# Altium footprint library F 发光管.PCBLIB: 40 footprints (part 3 of 3)
Each footprint in its own frame and in the unit in brackets; x right, y up, seen from the top. Pads: shape width x height; smd on the part's side, far side on the other; paste and mask are expansions set on the pad; w line width, h text height; cw(c..) or ccw(c..) is an arc to the next point about the centre after c.
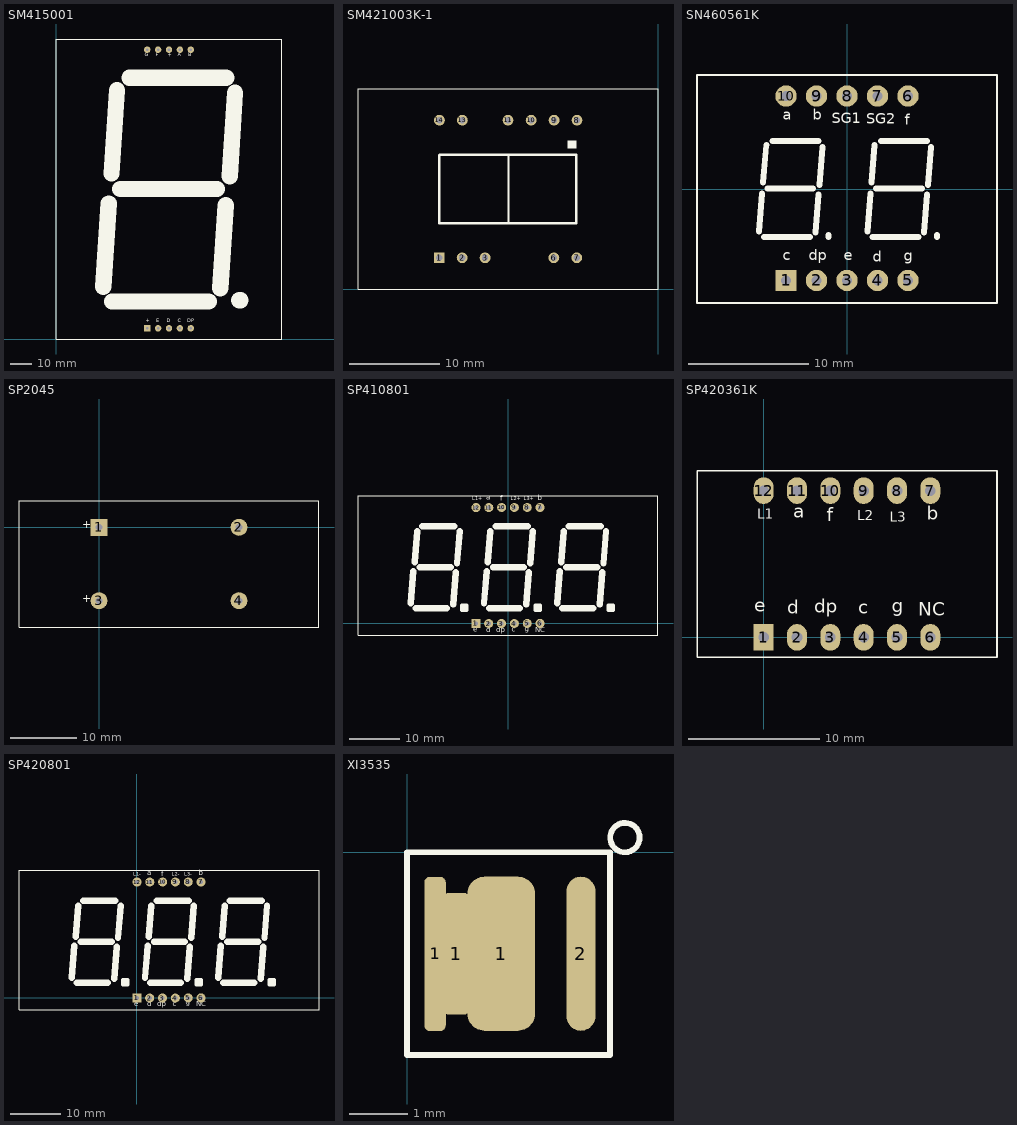
[diagram p2: the footprints below, top view; thin cyan lines are the x and y axes]

## SM415001 [mm] "八段码(1位,5英寸)/105*140/共阳/1,8公共脚/上下脚"
pads (10):
  rect 3x3 hole 1.2: 1(42.34,5)
  round 3 hole 1.2: 2(47.42,5) 3(52.5,5) 4(57.58,5) 5(62.66,5) 6(62.66,135) 7(57.58,135) 8(52.5,135) 9(47.42,135) 10(42.34,135)
Top Overlay:
  lines w0.254: 0,0 0,140 105,140 105,0 0,0
  lines w7.62: 21.844,24.384 24.384,63.246 ; 25.654,77.216 28.194,116.078 ; 25.908,17.526 71.12,17.526 ; 29.718,70 74.93,70 ; 34.036,121.92 79.248,121.92 ; 76.454,23.622 78.994,62.484 ; 80.793,76.015 83.333,114.877 ; 85.344,18.034 85.852,18.034
  text "G" at 41.275,131.191 h3.05
  text "F" at 46.355,131.191 h3.05
  text "DP" at 60.96,7.112 h3.05
  text "D" at 51.562,7.112 h3.05
  text "E" at 46.482,7.112 h3.05
  text "C" at 56.642,7.112 h3.05
  text "+" at 41.656,7.112 h3.05
  text "B" at 61.595,131.191 h3.05
  text "A" at 56.515,131.191 h3.05
  text "+" at 51.816,131.064 h3.05
Bottom Overlay:
  text "+" at 43.024,7.112 h3.05
  text "E" at 48.358,7.112 h3.05
  text "D" at 53.438,7.112 h3.05
  text "C" at 58.518,7.112 h3.05
  text "DP" at 64.36,7.112 h3.05
  text "G" at 43.405,131.191 h3.05
  text "F" at 48.485,131.191 h3.05
  text "+" at 53.184,131.064 h3.05
  text "A" at 58.645,131.191 h3.05
  text "B" at 63.725,131.191 h3.05

## SM421003K-1 [mm] "8段1位数码管/共阴/红色"
pads (11):
  rect 1.2x1.2 hole 0.7: 1(-24.24,3.5)
  round 1.2 hole 0.7: 2(-21.7,3.5) 3(-19.16,3.5) 6(-11.54,3.5) 7(-9,3.5) 8(-8.975,18.74) 9(-11.515,18.74) 10(-14.055,18.74) 11(-16.62,18.74) 13(-21.675,18.74) 14(-24.215,18.74)
Top Overlay:
  rectangle: -10.011,15.614 -9.02,16.478
  lines w0.1: -33.24,0 -33.24,22.24 0,22.24 0,0 -33.24,0
  lines w0.254: -24.24,7.335 -24.24,14.879 -24.215,14.905 -9.051,14.905 ; -24.215,7.31 -9.051,7.31 ; -16.569,7.31 -16.569,14.854 ; -9.051,7.335 -9.051,14.879

## SN460561K [mil] "8段2位数码管/共阴/红色"
pads (10):
  rect 70x70 hole 32: 1(-200,-300)
  round 70 hole 32: 2(-100,-300) 3(0,-300) 4(100,-300) 5(200,-300) 6(200,305) 7(100,305) 8(0,305) 9(-100,305) 10(-200,305)
Top Overlay:
  lines w5: -492.13,-374.02 -492.13,374.02 492.13,374.02 492.13,-374.02 -492.13,-374.02
  lines w19.68: -288.91,-139 -278.91,-15 ; -274.91,21 -264.91,145 ; -271.91,-158 -120.91,-158 ; -260.91,1 -112,1 ; -243.91,158 -92.91,158 ; -102.91,-142 -92.91,-18 ; -89.91,13 -79.91,137 ; -60.91,-158 -60.91,-151 ; 67,-139 77,-15 ; 81,21 91,145 ; 84,-158 235,-158 ; 95,1 132.75,1 208.25,1 246,1 ; 112,158 263,158 ; 253,-142 263,-18 ; 266,13 276,137 ; 295,-158 295,-151
  text "c" at -210,-245 h60
  text "b" at -112,216 h60
  text "g" at 187,-247 h60
  text "d" at 85,-250 h60
  text "dp" at -126,-246 h60
  text "f" at 190,200 h60
  text "SG2" at 63,203 h60
  text "e" at -10,-245 h60
  text "SG1" at -50,205 h60
  text "a" at -210,216 h60

## SP2045 [mm] "平面发光管/长45mm/宽19mm/高/绿色"
pads (4):
  rect 2.54x2.54 hole 1: 1(0,0)
  round 2.54 hole 1: 2(21,0) 3(0,-11) 4(21,-11)
Top Overlay:
  lines w0.076: -12,-15 -12,4 33,4 33,-15 -12,-15
  text "+" at -2.479,-0.598 h2.03
  text "+" at -2.489,-11.684 h2.03

## SP410801 [mil] "8段码/3位/0.8英寸/共阳/红色"
height 334.65
pads (12):
  rect 70x70 hole 32: 1(-250,0)
  round 70 hole 32: 2(-150.59,-0.98) 3(-51.18,-0.98) 4(49.21,-0.98) 9(49.21,902.56) 10(-50.2,902.56)
  round 70 hole 32.01: 5(149.61,0) 6(249.02,0) 7(249.02,902.56) 8(149.61,902.56) 11(-149.61,901.57) 12(-249.02,901.57)
Top Overlay:
  lines w4: -1167.82,-93.02 -1167.82,991.98
  lines w4.02: -1167.98,-93.02 1167.18,-93.02 1167.18,991.98 -1167.98,991.98
  lines w30: -358.32,136.48 -358.32,103.48 -321.32,103.48 -321.32,139.48 -358.32,139.48 ; -340.32,117.48 -340.32,134.48 ; 211.68,136.48 211.68,103.48 248.68,103.48 248.68,139.48 211.68,139.48 ; 229.68,117.48 229.68,134.48 ; 781.68,136.48 781.68,103.48 818.68,103.48 818.68,139.48 781.68,139.48 ; 799.68,117.48 799.68,134.48
  lines w50: -757.32,157.48 -737.32,407.48 ; -726.53,477.42 -707.32,717.48 ; -717.32,117.48 -477.32,117.48 ; -687.32,437.48 -447.32,437.48 ; -667.32,757.48 -417.32,757.48 ; -427.32,147.48 -407.32,397.48 ; -397.32,467.48 -377.32,717.48 ; -187.32,157.48 -167.32,407.48 ; -156.53,477.42 -137.32,717.48 ; -147.32,117.48 92.68,117.48 ; -117.32,437.48 122.68,437.48 ; -97.32,757.48 152.68,757.48 ; 142.68,147.48 162.68,397.48 ; 172.68,467.48 192.68,717.48 ; 382.68,157.48 402.68,407.48 ; 413.47,477.42 432.68,717.48 ; 422.68,117.48 662.68,117.48 ; 452.68,437.48 692.68,437.48 ; 472.68,757.48 722.68,757.48 ; 712.68,147.48 732.68,397.48 ; 742.68,467.48 762.68,717.48
  text "L1+" at -279,948 h50
  text "L3+" at 121,948 h50
  text "L2+" at 21,948 h50
  text "a" at -169,948 h70
  text "f" at -59,938 h70
  text "b" at 233,942 h70
  text "NC" at 210,-86 h70
  text "e" at -270,-80 h70
  text "d" at -170,-85 h70
  text "dp" at -90,-83 h70
  text "c" at 30,-80 h70
  text "g" at 130,-76 h70
Bottom Overlay:
  text "L3+" at 191,948 h50
  text "L2+" at 91,948 h50
  text "L1+" at -209,948 h50
  text "e" at -240,-80 h70
  text "d" at -130,-85 h70
  text "dp" at -20,-83 h70
  text "c" at 60,-80 h70
  text "g" at 170,-76 h70
  text "NC" at 300,-86 h70
  text "b" at 273,942 h70
  text "f" at -39,938 h70
  text "a" at -129,948 h70

## SP420361K [mil] "8段码3位/共阴/红色"
height 179.92
pads (12):
  rect 60x80 hole 32: 1(0,0)
  oval 60x80 hole 32: 2(100,0) 3(200,0) 4(300,0) 5(400,0) 6(500,0)
  oval 60x80 hole 32.01: 7(500,440) 8(400,440) 9(300,440) 10(200,440) 11(100,440) 12(0,440)
Top Overlay:
  lines w4: 700,-60 -200,-60 -200,500 700,500
  lines w5: 700,-60 700,500
  text "g" at 384,62 h70
  text "c" at 284,58 h70
  text "dp" at 151,60 h70
  text "d" at 71,58 h70
  text "e" at -29,63 h70
  text "NC" at 464,52 h70
  text "b" at 489,339 h70
  text "f" at 189,336 h70
  text "a" at 88,346 h70
  text "L2" at 281,341 h50
  text "L3" at 378,337 h50
  text "L1" at -20,346 h50
Bottom Overlay:
  text "a" at 119,343 h70
  text "f" at 209,336 h70
  text "b" at 521,339 h70
  text "NC" at 554,52 h70
  text "g" at 424,62 h70
  text "c" at 314,58 h70
  text "dp" at 221,60 h70
  text "d" at 111,58 h70
  text "e" at 1,63 h70
  text "L1" at 24,345 h50
  text "L2" at 327,343 h50
  text "L3" at 424,338 h50

## SP420801 [mil] "8段码/3位/0.8英寸/共阴/红色"
height 334.65
pads (12):
  rect 70x70 hole 32: 1(0,0)
  round 70 hole 32: 2(99.41,-0.98) 3(198.82,-0.98) 4(299.21,-0.98) 9(299.21,902.56) 10(199.8,902.56)
  round 70 hole 32.01: 5(399.61,0) 6(499.02,0) 7(499.02,902.56) 8(399.61,902.56) 11(100.39,901.57) 12(0.98,901.57)
Top Overlay:
  lines w4: -917.82,-93.02 -917.82,991.98
  lines w4.02: -917.98,-93.02 1417.18,-93.02 1417.18,991.98 -917.98,991.98
  lines w30: -108.32,136.48 -108.32,103.48 -71.32,103.48 -71.32,139.48 -108.32,139.48 ; -90.32,117.48 -90.32,134.48 ; 461.68,136.48 461.68,103.48 498.68,103.48 498.68,139.48 461.68,139.48 ; 479.68,117.48 479.68,134.48 ; 1031.68,136.48 1031.68,103.48 1068.68,103.48 1068.68,139.48 1031.68,139.48 ; 1049.68,117.48 1049.68,134.48
  lines w50: -507.32,157.48 -487.32,407.48 ; -476.53,477.42 -457.32,717.48 ; -467.32,117.48 -227.32,117.48 ; -437.32,437.48 -197.32,437.48 ; -417.32,757.48 -167.32,757.48 ; -177.32,147.48 -157.32,397.48 ; -147.32,467.48 -127.32,717.48 ; 62.68,157.48 82.68,407.48 ; 93.47,477.42 112.68,717.48 ; 102.68,117.48 342.68,117.48 ; 132.68,437.48 372.68,437.48 ; 152.68,757.48 402.68,757.48 ; 392.68,147.48 412.68,397.48 ; 422.68,467.48 442.68,717.48 ; 632.68,157.48 652.68,407.48 ; 663.47,477.42 682.68,717.48 ; 672.68,117.48 912.68,117.48 ; 702.68,437.48 942.68,437.48 ; 722.68,757.48 972.68,757.48 ; 962.68,147.48 982.68,397.48 ; 992.68,467.48 1012.68,717.48
  text "g" at 380,-70 h70
  text "c" at 280,-80 h70
  text "dp" at 160,-80 h70
  text "d" at 80,-80 h70
  text "e" at -20,-80 h70
  text "NC" at 460,-80 h70
  text "b" at 480,940 h70
  text "L2-" at 270,940 h50
  text "L3-" at 370,940 h50
  text "f" at 190,930 h70
  text "a" at 80,940 h70
  text "L1-" at -30,940 h50
Bottom Overlay:
  text "L1-" at 30,940 h50
  text "a" at 120,940 h70
  text "f" at 210,930 h70
  text "L2-" at 330,940 h50
  text "L3-" at 430,940 h50
  text "b" at 520,940 h70
  text "NC" at 550,-80 h70
  text "g" at 420,-70 h70
  text "c" at 310,-80 h70
  text "dp" at 230,-80 h70
  text "d" at 120,-80 h70
  text "e" at 10,-80 h70

## XI3535 [mm] "1W冷白色/贴片"
pads (4):
  rrect50% 0.37x2.66 smd: 1(0.483,-1.753)
  rrect50% 0.515x2.1 smd: 1(0.85,-1.75)
  rrect50% 1.17x2.66 smd: 1(1.625,-1.75)
  oval 0.5x2.66 smd: 2(3,-1.75)
Top Overlay:
  circle w0.1: c3.759,0.254 r0.254
  lines w0.1: 0,-3.5 3.5,-3.5 3.5,0 0,0 0,-3.5